# Altium footprint library smartled.PcbLib: 2 footprints
Each footprint in its own frame and in the unit in brackets; x right, y up, seen from the top. Pads: shape width x height; smd on the part's side, far side on the other; paste and mask are expansions set on the pad; w line width, h text height; cw(c..) or ccw(c..) is an arc to the next point about the centre after c.
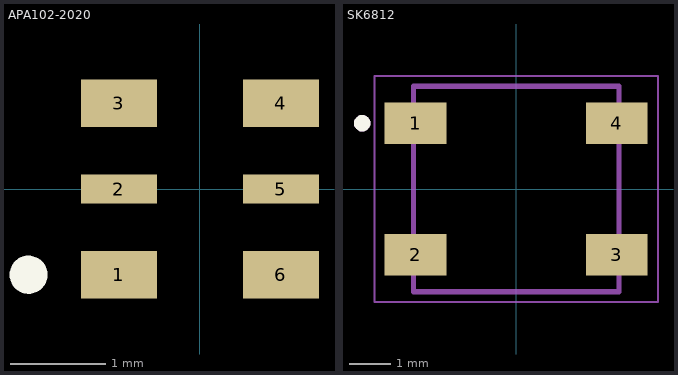
[diagram p0: the footprints below, top view; thin cyan lines are the x and y axes]

## APA102-2020 [mm]
height 0.9
pads (6):
  rect 0.8x0.5 smd: 1(-0.85,-0.9) 3(-0.85,0.9) 4(0.85,0.9) 6(0.85,-0.9)
  rect 0.8x0.3 smd: 2(-0.85,0) 5(0.85,0)
Top Overlay:
  circle w0.2: c-1.8,-0.9 r0.1
3D body "APA102 2020 LED.step": height 0.9, standoff -0.01, extent -1,-1 1,1

## SK6812 [mm]
height 1.6
pads (4):
  rect 1.5x1 smd: 1(-2.45,1.6) 2(-2.45,-1.6) 3(2.45,-1.6) 4(2.45,1.6)
Top Overlay:
  circle w0.2: c-3.75,1.6 r0.1
Mechanical 13:
  circle w0.2: c-3.75,1.6 r0.1
  lines w0.127: -2.5,-2.5 -2.5,2.5 2.5,2.5 2.5,-2.5 -2.5,-2.5
Mechanical 15:
  lines w0.05: -3.45,-2.75 -3.45,2.75 3.45,2.75 3.45,-2.75 -3.45,-2.75